# Altium footprint library znzt.PcbLib: 23 footprints (part 2 of 2)
Each footprint in its own frame and in the unit in brackets; x right, y up, seen from the top. Pads: shape width x height; smd on the part's side, far side on the other; paste and mask are expansions set on the pad; w line width, h text height; cw(c..) or ccw(c..) is an arc to the next point about the centre after c.
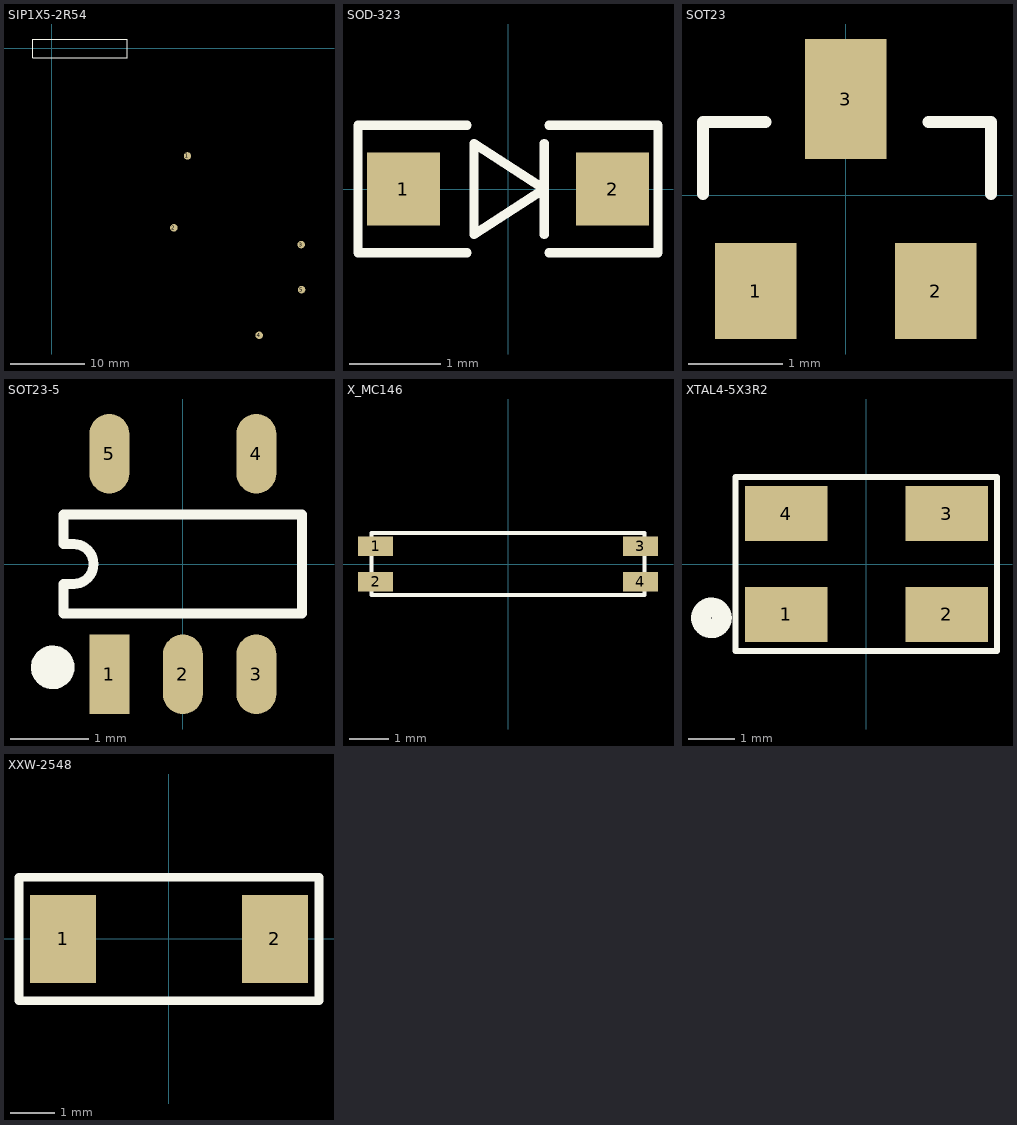
[diagram p1: the footprints below, top view; thin cyan lines are the x and y axes]

## SIP1X5-2R54 [mm]
pads (5):
  round 1 smd: 1(18.237,-14.427) 2(16.408,-24.079) 3(33.501,-26.339) 4(27.864,-38.506) 5(33.553,-32.385)
Top Overlay:
  lines w0.127: -2.54,-1.27 -2.54,1.27 10.16,1.27 10.16,-1.27 -2.54,-1.27

## SOD-323 [mm]
pads (2):
  rrect0% 0.8x0.8 smd: 1(-1.15,0) 2(1.15,0)
Top Overlay:
  lines w0.102: -0.45,-0.7 -1.65,-0.7 -1.65,0.7 -0.45,0.7 ; 0.4,-0.5 0.4,0.5 ; 0.45,-0.7 1.65,-0.7 1.65,0.7 0.45,0.7 ; -0.375,-0.5 -0.375,0.5 0.4,0 -0.375,-0.5

## SOT23 [mil]
pads (3):
  rect 34x40 smd: 1(-37.5,-40) 2(37.5,-40)
  rect 34x50 smd: 3(0,40)
Top Overlay:
  lines w5: -59.5,0.5 -59.5,30.5 -33.5,30.5 ; 34.5,30.5 60.5,30.5 60.5,0.5

## SOT23-5 [mil]
pads (5):
  rect 20x40 smd: 1(-37,-55.5)
  oval 20x40 smd: 2(0,-55.5) 3(37,-55.5) 4(37,55.5) 5(-37,55.5)
Top Overlay:
  circle w5: c-65.5,-52 r8.5
  circle w5: c-65,-52 r4.61
  circle w5: c-65,-52 r1.5
  lines w5: -60,-25 60,-25 60,25 -60,25 -60,10 -54.9,10 cw(c-54.9,0.1) -45,0.1 -45,-0.1 cw(c-54.9,-0.1) -54.9,-10 -60,-10 -60,-25

## X_MC146 [mm]
pads (4):
  rect 0.9x0.5 smd: 1(-3.4,0.45) 2(-3.4,-0.45) 3(3.4,0.45) 4(3.4,-0.45)
Top Overlay:
  lines w0.1: -3.5,-0.8 -3.5,0.8 3.5,0.8 3.5,-0.8 -3.5,-0.8

## XTAL4-5X3R2 [mm]
pads (4):
  rect 1.8x1.2 smd: 1(-1.75,-1.1) 2(1.75,-1.1) 3(1.75,1.1) 4(-1.75,1.1)
Top Overlay:
  circle w0.254: c-3.375,-1.175 r0.141
  circle w0.254: c-3.375,-1.175 r0.316
  lines w0.127: -2.85,-1.9 -2.85,1.9 2.85,1.9 2.85,-1.9 -2.85,-1.9

## XXW-2548 [mm]
pads (2):
  rect 1.5x2 smd: 1(-2.4,0) 2(2.4,0)
Top Overlay:
  lines w0.2: -3.4,-1.4 -3.4,1.4 3.4,1.4 3.4,-1.4 -3.4,-1.4